# EAGLE library part SIEMENS-TLCD-NBL (library evallib)
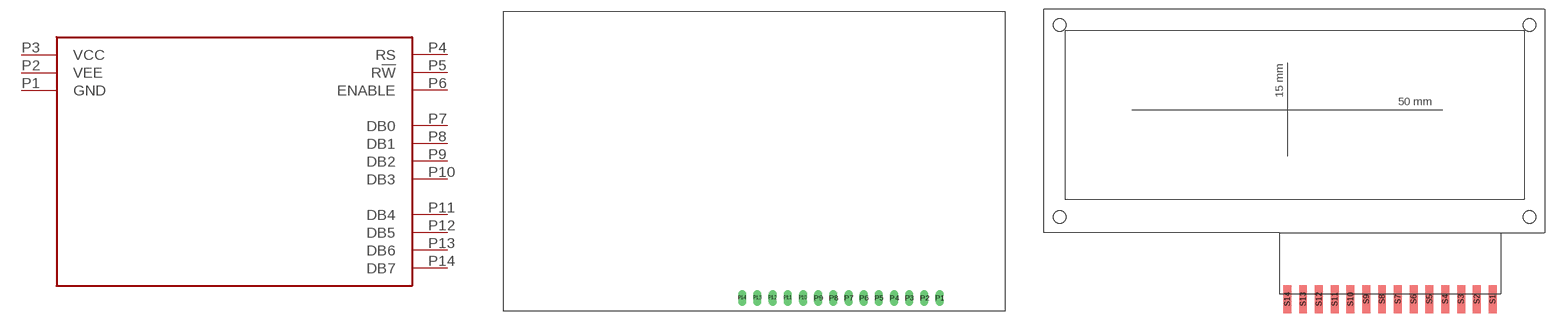
[diagram p4: symbol with the pads of TDISPLAY1; footprints TDISPLAY1, SIEMENS_DISPLAY_SMD]

Designator prefix -

## SIEMENS-TLCD-NBLPDIP  [TDISPLAY1]
P1  GND
P2  VEE
P3  VCC
P4  RS
P5  R!W
P6  ENABLE
P7  DB0
P8  DB1
P9  DB2
P10  DB3
P11  DB4
P12  DB5
P13  DB6
P14  DB7

## SIEMENS-TLCD-NBLSMD  [SIEMENS_DISPLAY_SMD]
S1  GND
S2  VEE
S3  VCC
S4  RS
S5  R!W
S6  ENABLE
S7  DB0
S8  DB1
S9  DB2
S10  DB3
S11  DB4
S12  DB5
S13  DB6
S14  DB7

## Footprint TDISPLAY1 (pad centres in mm)
drill 0.8 pad 1.27 long: P1 33.02,-22.86; P2 30.48,-22.86; P3 27.94,-22.86; P4 25.4,-22.86; P5 22.86,-22.86; P6 20.32,-22.86; P7 17.78,-22.86; P8 15.24,-22.86; P9 12.7,-22.86; P10 10.16,-22.86; P11 7.62,-22.86; P12 5.08,-22.86; P13 2.54,-22.86; P14 0,-22.86

## Footprint SIEMENS_DISPLAY_SMD (pad centres in mm)
smd 1.27 x 4.5: S1 33.02,-21.59; S2 30.48,-21.59; S3 27.94,-21.59; S4 25.4,-21.59; S5 22.86,-21.59; S6 20.32,-21.59; S7 17.78,-21.59; S8 15.24,-21.59; S9 12.7,-21.59; S10 10.16,-21.59; S11 7.62,-21.59; S12 5.08,-21.59; S13 2.54,-21.59; S14 0,-21.59
hole 2 at -36.62,22.5
hole 2 at -36.62,-8.4
hole 2 at 38.96,22.5
hole 2 at 38.96,-8.4